# Altium schematic symbol library pesd2can_215.SchLib: 1 symbol
Pins are listed as number, name and electrical type; pins without a type are passive.

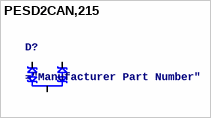
[diagram p0: symbol PESD2CAN,215]

## PESD2CAN,215
designator D?
DIODE ESD CAN SOT-23
pins: 1, 2, 3